# EAGLE library part WF-M620-RSC1 (library AzureSphere)
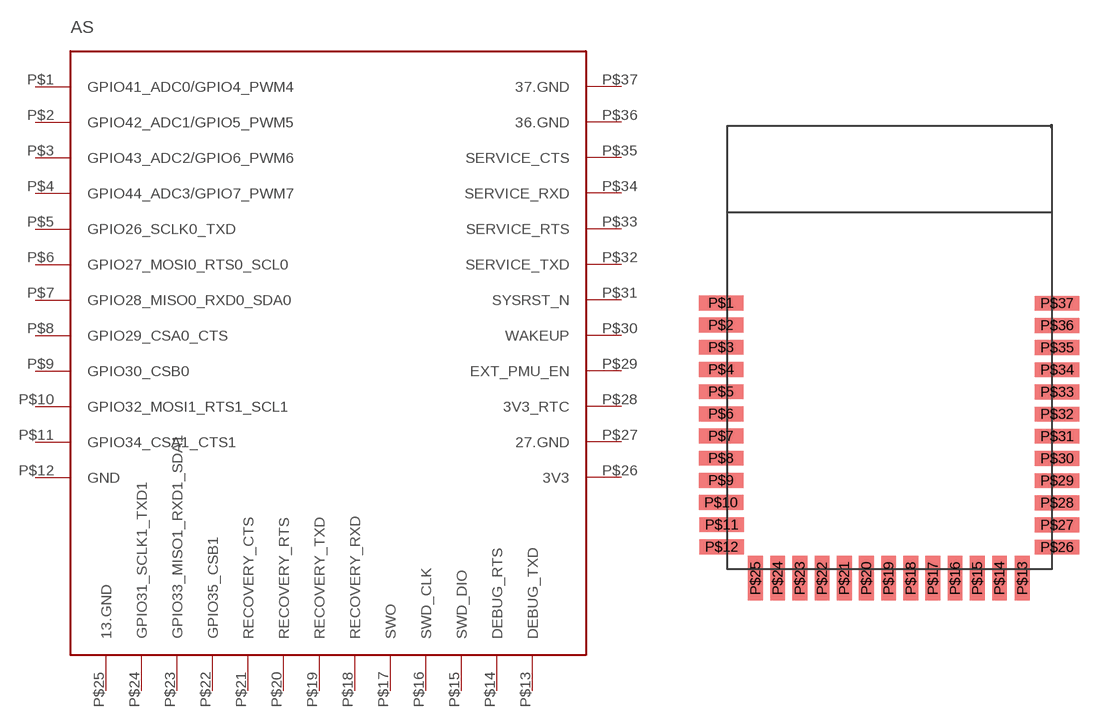
[diagram p1: symbol with the pads of WF-M620-RSC1; footprint WF-M620-RSC1]

Designator prefix AS

## WF-M620-RSC1  [WF-M620-RSC1]
P$1  GPIO41_ADC0/GPIO4_PWM4
P$2  GPIO42_ADC1/GPIO5_PWM5
P$3  GPIO43_ADC2/GPIO6_PWM6
P$4  GPIO44_ADC3/GPIO7_PWM7
P$5  GPIO26_SCLK0_TXD
P$6  GPIO27_MOSI0_RTS0_SCL0
P$7  GPIO28_MISO0_RXD0_SDA0
P$8  GPIO29_CSA0_CTS
P$9  GPIO30_CSB0
P$10  GPIO32_MOSI1_RTS1_SCL1
P$11  GPIO34_CSA1_CTS1
P$12  GND
P$13  DEBUG_TXD
P$14  DEBUG_RTS
P$15  SWD_DIO
P$16  SWD_CLK
P$17  SWO
P$18  RECOVERY_RXD
P$19  RECOVERY_TXD
P$20  RECOVERY_RTS
P$21  RECOVERY_CTS
P$22  GPIO35_CSB1
P$23  GPIO33_MISO1_RXD1_SDA1
P$24  GPIO31_SCLK1_TXD1
P$25  13.GND
P$26  3V3
P$27  27.GND
P$28  3V3_RTC
P$29  EXT_PMU_EN
P$30  WAKEUP
P$31  SYSRST_N
P$32  SERVICE_TXD
P$33  SERVICE_RTS
P$34  SERVICE_RXD
P$35  SERVICE_CTS
P$36  36.GND
P$37  37.GND

## Footprint WF-M620-RSC1 (pad centres in mm)
smd 3 x 1: P$1 -11.93,-3.88; P$2 -11.93,-5.38; P$3 -11.93,-6.88; P$4 -11.93,-8.38; P$5 -11.93,-9.88; P$6 -11.93,-11.38; P$7 -11.93,-12.88; P$8 -11.93,-14.38; P$9 -11.93,-15.88; P$10 -11.93,-17.38; P$11 -11.88,-18.88; P$12 -11.88,-20.38; P$26 10.8,-20.4; P$27 10.8,-18.9; P$28 10.8,-17.4; P$29 10.8,-15.9; P$30 10.8,-14.4; P$31 10.8,-12.9; P$32 10.8,-11.4; P$33 10.8,-9.9; P$34 10.8,-8.4; P$35 10.8,-6.9; P$36 10.8,-5.4; P$37 10.8,-3.9
smd 1 x 3: P$13 8.45,-22.5; P$14 6.9,-22.5; P$15 5.4,-22.5; P$16 3.9,-22.5; P$17 2.4,-22.5; P$18 0.9,-22.5; P$19 -0.6,-22.5; P$20 -2.1,-22.5; P$21 -3.6,-22.5; P$22 -5.1,-22.5; P$23 -6.6,-22.5; P$24 -8.1,-22.5; P$25 -9.6,-22.5